# Altium footprint library SOD-123.PcbLib: 1 footprints
Each footprint in its own frame and in the unit in brackets; x right, y up, seen from the top. Pads: shape width x height; smd on the part's side, far side on the other; paste and mask are expansions set on the pad; w line width, h text height; cw(c..) or ccw(c..) is an arc to the next point about the centre after c.
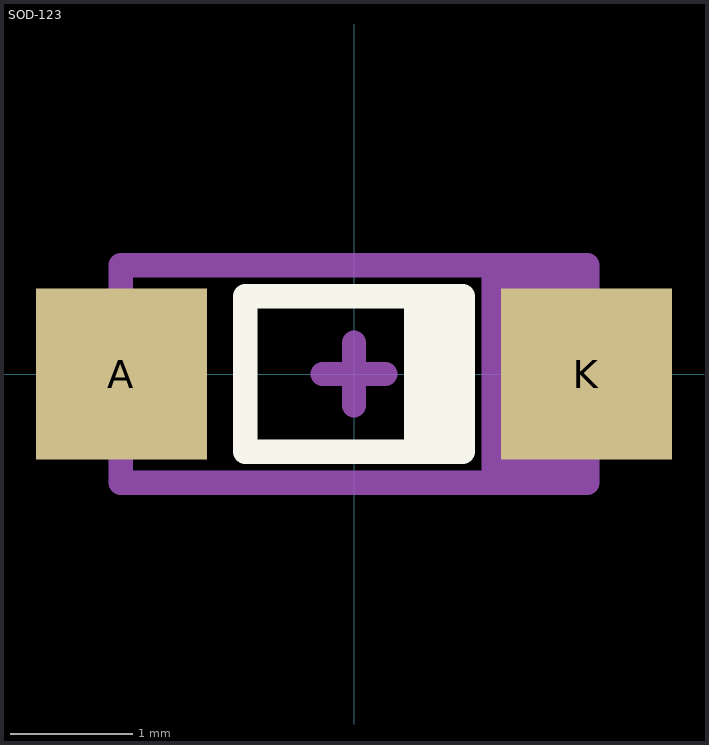
[diagram p0: the footprint, top view; thin cyan lines are the x and y axes]

## SOD-123 [mm]
pads (2):
  rect 1.4x1.4 smd: A(-1.9,0) K(1.9,0)
Top Overlay:
  lines w0.2: 0.508,-0.635 0.508,0.635 ; 0.635,-0.635 0.635,0.635 ; 0.762,-0.635 0.762,0.635 ; -0.889,-0.635 -0.889,0.635 0.889,0.635 0.889,-0.635 -0.889,-0.635
Mechanical 13:
  lines w0.2: 1.143,-0.889 1.143,0.889 ; 1.27,-0.889 1.27,0.889 ; 1.397,-0.889 1.397,0.889 ; 1.524,-0.889 1.524,0.889 ; 1.651,-0.889 1.651,0.889 ; 1.778,-0.889 1.778,0.889 ; -1.905,-0.889 -1.905,0.889 1.905,0.889 1.905,-0.889 -1.905,-0.889
  text ".Designator" at -0.889,-0.508 h1.52
Mechanical 15:
  lines w0.2: -0.254,0 0.254,0 ; 0,-0.254 0,0.254
3D body: height 1.27, standoff 0, extent -1.85,-0.762 1.85,0.838